# Altium schematic symbol library NTA53321G0FHKZ.SchLib: 1 symbol
Pins are listed as number, name and electrical type; pins without a type are passive.

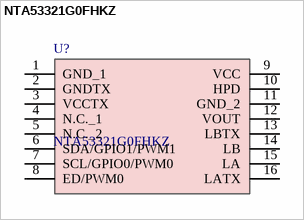
[diagram p0: symbol NTA53321G0FHKZ]

## NTA53321G0FHKZ
designator U?
Interface - Specialized NTAG; Manufacturer_Name: NXP; Geometry.Height: 0.5mm; Manufacturer_Part_Number: NTA53321G0FHKZ; Mouser Part Number: 771-NTA53321G0FHKZ; Mouser Price/Stock: https://www.mouser.co.uk/ProductDetail/NXP-Semiconductors/NTA53321G0FHKZ?qs=OlC7AqGiEDk3OpnM8pXHAA%3D%3D; Arrow Part Number: NTA53321G0FHKZ; Arrow Price/Stock: https://www.arrow.com/en/products/nta53321g0fhkz/nxp-semiconductors?region=nac; Datasheet Link: https://www.mouser.co.il/datasheet/2/302/NTA5332-1815294.pdf
footprint NTA53321G0FHKZ
pins: 1 GND_1, 2 GNDTX, 3 VCCTX, 4 N.C._1, 5 N.C._2, 6 SDA/GPIO1/PWM1, 7 SCL/GPIO0/PWM0, 8 ED/PWM0, 9 VCC, 10 HPD, 11 GND_2, 12 VOUT, 13 LBTX, 14 LB, 15 LA, 16 LATX